# EAGLE library part ROCKBLOCK-V2.0 (library Circuitos-Creativos-Modulos)
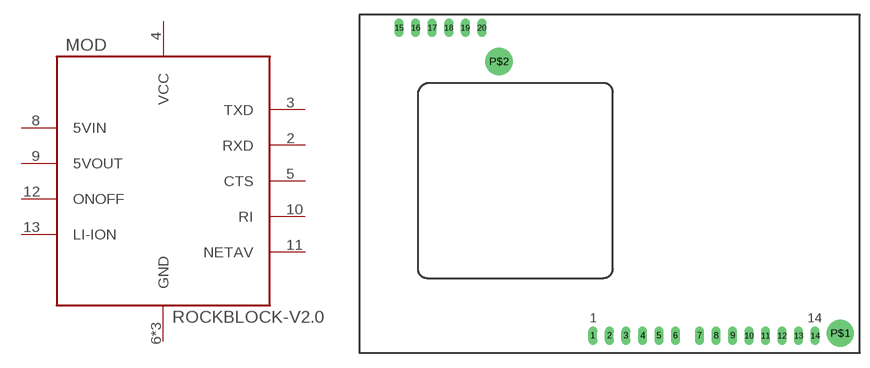
[diagram p0: symbol with the pads of ROCKBLOCK-V2.0; footprint ROCKBLOCK-V2.0]

Designator prefix MOD

## ROCKBLOCK-V2.0  [ROCKBLOCK-V2.0]
2  RXD
3  TXD
4  VCC  pwr
5  CTS
6  GND  pwr
7  GND  pwr
8  5VIN
9  5VOUT
10  RI
11  NETAV
12  ONOFF
13  LI-ION  pwr
14  GND  pwr

## Footprint ROCKBLOCK-V2.0 (pad centres in mm)
drill 0.813 pad 1.422 long: 1 35.958,2.625; 2 38.498,2.625; 3 41.038,2.625; 4 43.578,2.625; 5 46.117,2.625; 6 48.657,2.625; 7 52.358,2.625; 8 54.898,2.625; 9 57.438,2.625; 10 59.977,2.625; 11 62.517,2.625; 12 65.058,2.625; 13 67.597,2.625; 14 70.138,2.625; 15 6.15,50; 16 8.69,50; 17 11.23,50; 18 13.77,50; 19 16.31,50; 20 18.85,50
drill 3.2: P$1 74,3; P$2 21.5,44.8